# Altium footprint library PKY_LIB.PcbLib: 59 footprints (part 1 of 5)
Each footprint in its own frame and in the unit in brackets; x right, y up, seen from the top. Pads: shape width x height; smd on the part's side, far side on the other; paste and mask are expansions set on the pad; w line width, h text height; cw(c..) or ccw(c..) is an arc to the next point about the centre after c.
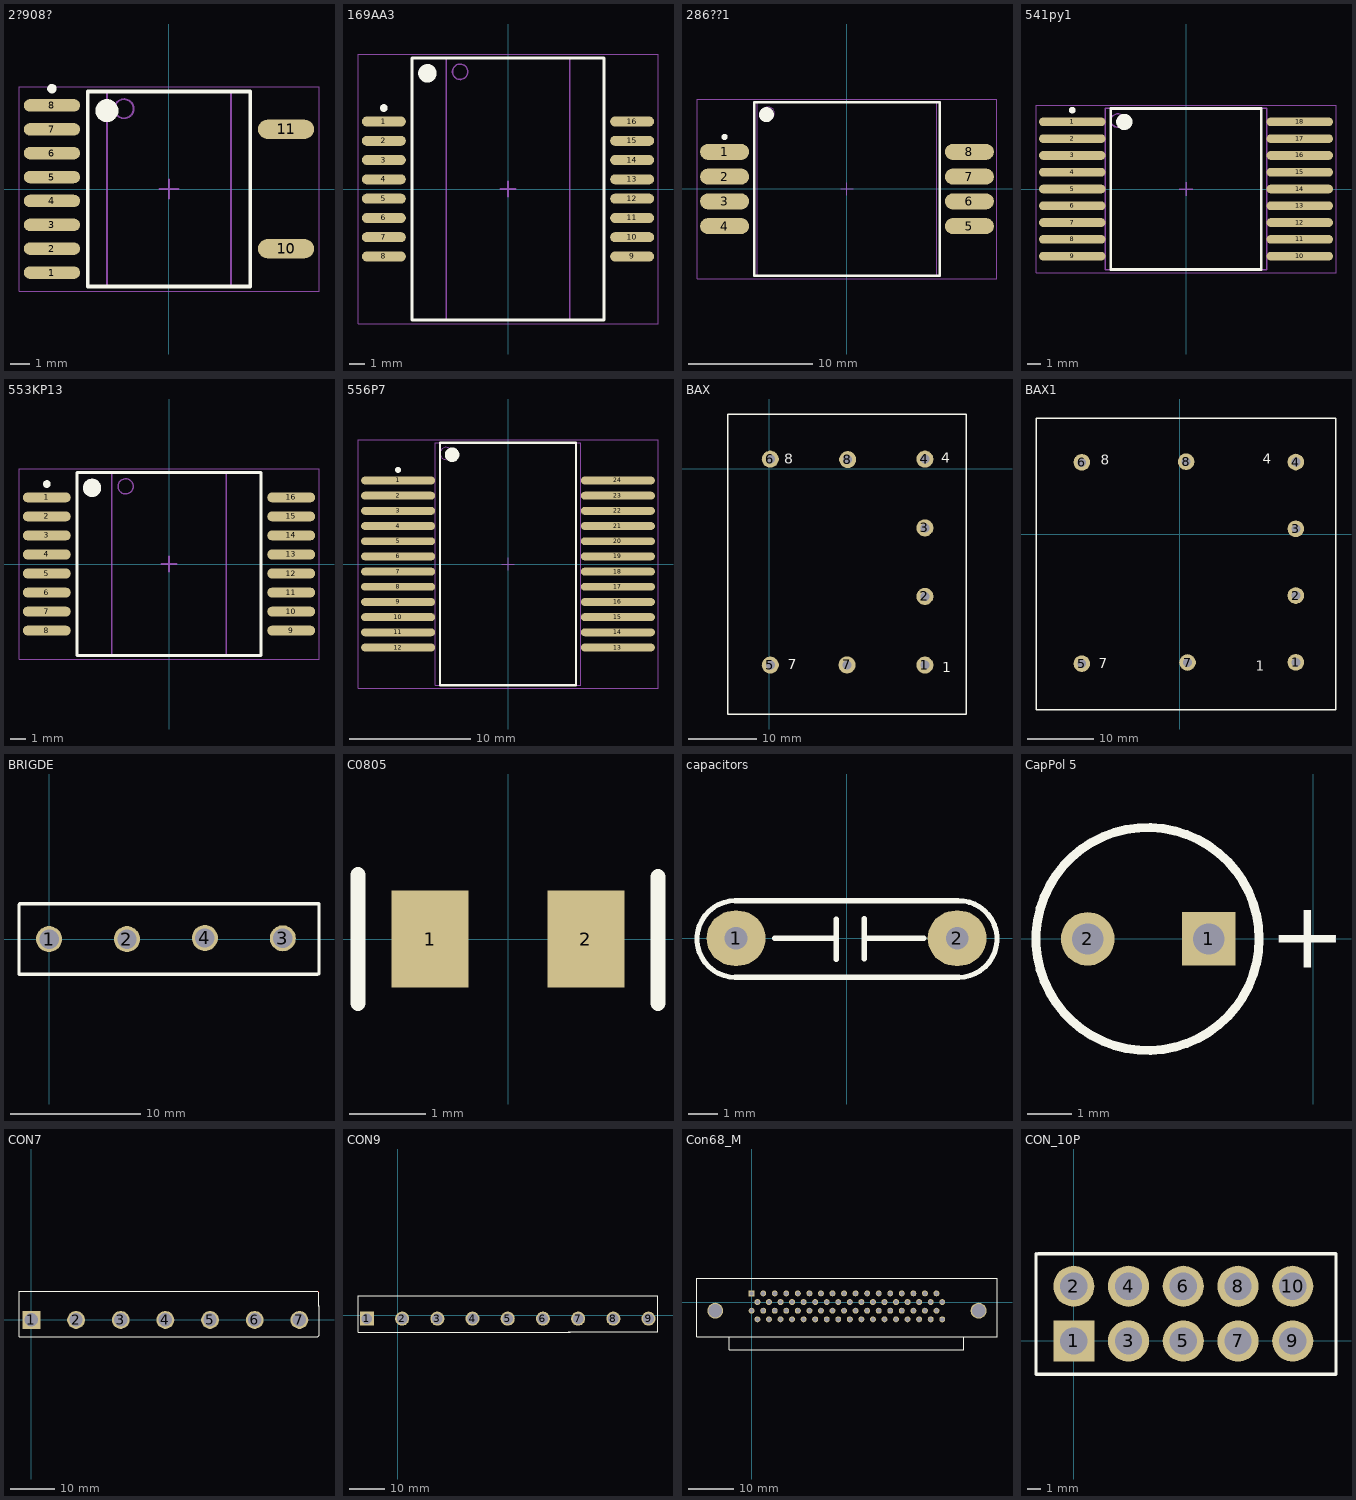
[diagram p0: the footprints below, top view; thin cyan lines are the x and y axes]

## 2?908? [mm] "SOP, 16-Leads, Body 10.10x6.25mm, Pitch 1.25mm, IPC Medium Density"
height 2
pads (10):
  oval 2.95x0.65 smd: 1(-6.125,-4.375) 2(-6.125,-3.125) 3(-6.125,-1.875) 4(-6.125,-0.625) 5(-6.125,0.625) 6(-6.125,1.875) 7(-6.125,3.125) 8(-6.125,4.375)
  oval 2.95x1 smd: 10(6.125,-3.125) 11(6.125,3.125)
Top Overlay:
  circle w0.25: c-6.125,5.25 r0.125
  circle w0.6: c-3.25,4.1 r0.3
  lines w0.2: -4.25,-5.1 -4.25,5.1 4.25,5.1 4.25,-5.1 -4.25,-5.1
Mechanical 13:
  circle w0.1: c-2.35,4.2 r0.5
  lines w0.1: -3.25,-5.1 -3.25,5.1 3.25,5.1 3.25,-5.1 -3.25,-5.1
Mechanical 15:
  lines w0.05: -7.85,-5.35 -7.85,5.35 7.85,5.35 7.85,-5.35 -7.85,-5.35
  lines w0.1: -0.5,0 0.5,0 ; 0,-0.5 0,0.5
3D body "SOP125P1420X200-16N.step": height 2, standoff 0, extent -7.125,-5.1 7.125,5.1

## 169AA3 [mm] "SOP, 16-Leads, Body 17.00x8.00mm, Pitch 1.25mm, IPC Medium Density"
height 4
pads (16):
  oval 2.85x0.65 smd: 1(-8.05,4.375) 2(-8.05,3.125) 3(-8.05,1.875) 4(-8.05,0.625) 5(-8.05,-0.625) 6(-8.05,-1.875) 7(-8.05,-3.125) 8(-8.05,-4.375) 9(8.05,-4.375) 10(8.05,-3.125) 11(8.05,-1.875) 12(8.05,-0.625) 13(8.05,0.625) 14(8.05,1.875) 15(8.05,3.125) 16(8.05,4.375)
Top Overlay:
  circle w0.6: c-5.225,7.5 r0.3
  circle w0.25: c-8.05,5.25 r0.125
  lines w0.2: -6.225,-8.5 6.225,-8.5 6.225,8.5 -6.225,8.5 -6.225,-8.5
Mechanical 13:
  circle w0.1: c-3.1,7.6 r0.5
  lines w0.1: -4,-8.5 4,-8.5 4,8.5 -4,8.5 -4,-8.5
Mechanical 15:
  lines w0.05: -9.725,-8.75 9.725,-8.75 9.725,8.75 -9.725,8.75 -9.725,-8.75
  lines w0.1: -0.5,0 0.5,0 ; 0,-0.5 0,0.5
3D body "SOP125P1810X400-16N.step": height 4, standoff 0, extent -9.05,-8.5 9.05,8.5

## 286??1 [mm] "SOP, 8-Leads, Body 13.50x14.25mm, Pitch 2.00mm, IPC Medium Density"
height 3
pads (8):
  oval 3.95x1.3 smd: 1(-9.875,3) 2(-9.875,1) 3(-9.875,-1) 4(-9.875,-3) 5(9.875,-3) 6(9.875,-1) 7(9.875,1) 8(9.875,3)
Top Overlay:
  circle w0.25: c-9.875,4.2 r0.125
  circle w0.6: c-6.5,6 r0.3
  lines w0.2: -7.5,-7 -7.5,7 7.5,7 7.5,-7 -7.5,-7
Mechanical 13:
  circle w0.1: c-6.35,6.1 r0.5
  lines w0.1: -7.25,-7 -7.25,7 7.25,7 7.25,-7 -7.25,-7
Mechanical 15:
  lines w0.05: -12.1,-7.25 -12.1,7.25 12.1,7.25 12.1,-7.25 -12.1,-7.25
  lines w0.1: -0.5,0 0.5,0 ; 0,-0.5 0,0.5
3D body "SOP200P2280X300-8N.step": height 3, standoff 0, extent -11.375,-7 11.375,7

## 541py1 [mm] "TSOP, 18-Leads, Body 12.00x12.00mm, Pitch 1.25mm, IPC Medium Density"
height 1.5
pads (18):
  oval 4.95x0.65 smd: 1(-8.475,5) 2(-8.475,3.75) 3(-8.475,2.5) 4(-8.475,1.25) 5(-8.475,0) 6(-8.475,-1.25) 7(-8.475,-2.5) 8(-8.475,-3.75) 9(-8.475,-5) 10(8.475,-5) 11(8.475,-3.75) 12(8.475,-2.5) 13(8.475,-1.25) 14(8.475,0) 15(8.475,1.25) 16(8.475,2.5) 17(8.475,3.75) 18(8.475,5)
Top Overlay:
  circle w0.6: c-4.6,5 r0.3
  circle w0.25: c-8.475,5.875 r0.125
  lines w0.2: -5.6,-6 5.6,-6 5.6,6 -5.6,6 -5.6,-6
Mechanical 13:
  circle w0.1: c-5.1,5.1 r0.5
  lines w0.1: -6,-6 6,-6 6,6 -6,6 -6,-6
Mechanical 15:
  lines w0.05: -11.175,-6.25 11.175,-6.25 11.175,6.25 -11.175,6.25 -11.175,-6.25
  lines w0.1: -0.5,0 0.5,0 ; 0,-0.5 0,0.5
3D body "TSOP125P2100X150-18N.step": height 1.7, standoff 0.2, extent -10.5,-6 10.5,6

## 553KP13 [mm] "SOP, 16-Leads, Body 11.75x7.25mm, Pitch 1.25mm, IPC Medium Density"
height 2
pads (16):
  oval 3.15x0.65 smd: 1(-8.025,4.375) 2(-8.025,3.125) 3(-8.025,1.875) 4(-8.025,0.625) 5(-8.025,-0.625) 6(-8.025,-1.875) 7(-8.025,-3.125) 8(-8.025,-4.375) 9(8.025,-4.375) 10(8.025,-3.125) 11(8.025,-1.875) 12(8.025,-0.625) 13(8.025,0.625) 14(8.025,1.875) 15(8.025,3.125) 16(8.025,4.375)
Top Overlay:
  circle w0.25: c-8.025,5.25 r0.125
  circle w0.6: c-5.05,5 r0.3
  lines w0.2: -6.05,-6 -6.05,6 6.05,6 6.05,-6 -6.05,-6
Mechanical 13:
  circle w0.1: c-2.85,5.1 r0.5
  lines w0.1: -3.75,-6 -3.75,6 3.75,6 3.75,-6 -3.75,-6
Mechanical 15:
  lines w0.05: -9.85,-6.25 -9.85,6.25 9.85,6.25 9.85,-6.25 -9.85,-6.25
  lines w0.1: -0.5,0 0.5,0 ; 0,-0.5 0,0.5
3D body "SOP125P1820X200-16N.step": height 2, standoff 0, extent -9.125,-6 9.125,6

## 556P7 [mm] "SOP, 24-Leads, Body 19.50x11.50mm, Pitch 1.25mm, IPC Medium Density"
height 2
pads (24):
  oval 6.1x0.65 smd: 1(-9.05,6.875) 2(-9.05,5.625) 3(-9.05,4.375) 4(-9.05,3.125) 5(-9.05,1.875) 6(-9.05,0.625) 7(-9.05,-0.625) 8(-9.05,-1.875) 9(-9.05,-3.125) 10(-9.05,-4.375) 11(-9.05,-5.625) 12(-9.05,-6.875) 13(9.05,-6.875) 14(9.05,-5.625) 15(9.05,-4.375) 16(9.05,-3.125) 17(9.05,-1.875) 18(9.05,-0.625) 19(9.05,0.625) 20(9.05,1.875) 21(9.05,3.125) 22(9.05,4.375) 23(9.05,5.625) 24(9.05,6.875)
Top Overlay:
  circle w0.6: c-4.6,9 r0.3
  circle w0.25: c-9.05,7.75 r0.125
  lines w0.2: -5.6,-10 5.6,-10 5.6,10 -5.6,10 -5.6,-10
Mechanical 13:
  circle w0.1: c-5.1,9.1 r0.5
  lines w0.1: -6,-10 6,-10 6,10 -6,10 -6,-10
Mechanical 15:
  lines w0.05: -12.35,-10.25 12.35,-10.25 12.35,10.25 -12.35,10.25 -12.35,-10.25
  lines w0.1: -0.5,0 0.5,0 ; 0,-0.5 0,0.5
3D body "SOP125P2320X200-24N.step": height 2, standoff 0, extent -11.625,-10 11.625,10

## BAX [mil]
pads (8):
  round 98 hole 52: 1(892.48,-1127.18) 2(892.48,-733.02) 3(892.48,-339.69) 4(892.48,54.48) 5(5.2,-1127.17) 6(5.2,54.49) 7(445.45,-1126.16) 8(449.35,52.06)
Top Overlay:
  lines w8: -238.34,-1407.75 1129.13,-1407.75 1129.13,313.61 -238.34,313.61 -238.34,-1407.75
  text "8" at 85.17,28.69 h59.06
  text "4" at 986.84,32.58 h59.06
  text "1" at 990.74,-1167.06 h59.06
  text "7" at 104.64,-1151.48 h59.06

## BAX1 [mil]
pads (8):
  round 98 hole 52: 1(683.6,-755.83) 2(683.6,-361.66) 3(683.6,31.67) 4(683.6,425.83) 5(-578.95,-763.18) 6(-578.95,423.61) 7(44.45,-756.74) 8(35.86,427.91)
Top Overlay:
  lines w8: -849.28,-1036.4 -849.28,684.96 920.25,684.96 920.25,-1036.4 -849.28,-1036.4
  text "7" at -478.26,-791.03 h59.06
  text "1" at 446.93,-805 h59.06
  text "4" at 486.93,415 h59.06
  text "8" at -467.36,408.96 h59.06

## BRIGDE [mm]
pads (4):
  round 2 hole 1.5: 1(0,0) 2(6,0) 3(18,0.059) 4(12,0.082)
Top Overlay:
  lines w0.254: 20.651,-2.704 8.461,-2.704 -2.318,-2.704 -2.318,2.658 -2.263,2.713 20.761,2.713 20.789,2.685 20.789,-2.698

## C0805 [mm] "Chip Resistor; Body 2.0 x 1.3 mm (LxW typ)"
height 2.54
pads (2):
  rect 1x1.27 smd: 1(-1.016,0) 2(1.016,0)
Top Overlay:
  lines w0.2: -1.956,-0.838 -1.956,0.838 ; 1.956,-0.838 1.956,0.813
3D body "User Library-0805 SMD Capacitor.step": height 0.78, standoff 0, extent -1,-0.625 1,0.625

## capacitors [mil] "Cap np W 0.3"
height 200
pads (2):
  oval 80x75 hole 31: 1(-150,0) 2(150,0)
Top Overlay:
  lines w7: -151,-53 cw(c-151,-1) -151,51 ; -150,51 150,51 ; -149,-53 150,-53 ; -98,0 -14,0 ; -14,-29 -14,26 ; 24,-28 24,27 ; 24,0 105,0 ; 150.96,50.99 cw(c152,-1) 152,-53
3D body "SW3dPS-Panasonic ECK-A3D102KBP.STEP": height 419.15, standoff -100, extent -157.5,-40 157.5,54.19

## CapPol 5 [mm]
pads (2):
  rect 1.2x1.2 hole 0.7: 1(-2.34,0)
  round 1.2 hole 0.7: 2(-5.05,0)
Top Overlay:
  circle w0.2: c-3.71,-0.002 r2.5
  text "+" at -0.986,-0.641 h1.5

## CON7 [mm]
pads (7):
  rect 4x4 hole 3: 1(0,0)
  round 4 hole 3: 2(10,0) 3(20,0) 4(30,0) 5(40,0) 6(50,0) 7(60,0)
Top Layer:
  lines w0.254: 64.146,6.449 64.355,6.24
Top Overlay:
  lines w0.254: -2.767,6.449 64.146,6.449 ; -2.763,6.383 -2.763,-3.795 19.13,-3.795 ; 17.255,-3.789 37.851,-3.789 ; 37.237,-3.789 57.78,-3.789 ; 57.237,-3.779 64.068,-3.779 64.395,-3.452 64.395,3.182 ; 64.355,3.105 64.355,6.24

## CON9 [mm]
pads (9):
  rect 4x4 hole 3: 1(-8.72,-1.017)
  round 4 hole 3: 2(1.28,-1.017) 3(11.28,-1.017) 4(21.28,-1.017) 5(31.28,-1.017) 6(41.28,-1.017) 7(51.28,-1.017) 8(61.28,-1.017) 9(71.28,-1.017)
Top Overlay:
  lines w0.254: 8.536,-4.806 29.131,-4.806 ; 10.41,-4.812 -11.262,-4.812 -11.262,5.431 62.035,5.431 73.976,5.431 73.976,-4.796 48.517,-4.796 ; 28.517,-4.806 49.06,-4.806

## Con68_M [mm]
pads (70):
  rect 1.3x1.3 hole 0.9: 1(0,1.905)
  round 1.3 hole 0.9: 2(1.27,0) 3(2.54,1.905) 4(3.81,0) 5(5.08,1.905) 6(6.35,0) 7(7.62,1.905) 8(8.89,0) 9(10.16,1.905) 10(11.43,0) 11(12.7,1.905) 12(13.97,0) 13(15.24,1.905) 14(16.51,0) 15(17.78,1.905) 16(19.05,0) 17(20.32,1.905) 18(21.59,0) 19(22.86,1.905) 20(24.13,0) 21(25.4,1.905) 22(26.67,0) 23(27.94,1.905) 24(29.21,0) 25(30.48,1.905) 26(31.75,0) 27(33.02,1.905) 28(34.29,0) 29(35.56,1.905) 30(36.83,0) 31(38.1,1.905) 32(39.37,0) 33(40.64,1.905) 34(41.91,0) 35(0,-1.905) 36(1.27,-3.81) 37(2.54,-1.905) 38(3.81,-3.81) 39(5.08,-1.905) 40(6.35,-3.81) 41(7.62,-1.905) 42(8.89,-3.81) 43(10.16,-1.905) 44(11.43,-3.81) 45(12.7,-1.905) 46(13.97,-3.81) 47(15.24,-1.905) 48(16.51,-3.81) 49(17.78,-1.905) 50(19.05,-3.81) 51(20.32,-1.905) 52(21.59,-3.81) 53(22.86,-1.905) 54(24.13,-3.81) 55(25.4,-1.905) 56(26.67,-3.81) 57(27.94,-1.905) 58(29.21,-3.81) 59(30.48,-1.905) 60(31.75,-3.81) 61(33.02,-1.905) 62(34.29,-3.81) 63(35.56,-1.905) 64(36.83,-3.81) 65(38.1,-1.905) 66(39.37,-3.81) 67(40.64,-1.905) 68(41.91,-3.81)
  round 3.5 hole 3: ""(-7.995,-1.905) ""(49.905,-1.905)
Top Overlay:
  lines w0.254: -12.013,-7.633 53.951,-7.633 53.951,5.28 -12.013,5.28 -12.013,-7.619 ; -4.91,-7.677 -4.91,-10.548 -4.895,-10.533 46.636,-10.533 46.64,-10.529 46.64,-7.664

## CON_10P [mm]
pads (10):
  rect 3x3 hole 2: 1(0,0)
  round 3 hole 2: 2(0,4) 3(4,0) 4(4,4) 5(8,0) 6(8,4) 7(12,0) 8(12,4) 9(16,0) 10(16,4)
Top Overlay:
  lines w0.254: -2.763,6.383 -2.763,-2.439 19.13,-2.439 19.162,-2.407 19.162,6.383 -2.601,6.383